# EAGLE library part 653106131822 (library Wurth_Connectors_WR-WTB)
WR-WTB 1.25 mm SMT Male Horizontal Shrouded Header KIND PROPERTIES: Pitch:1.25 mm Gender:Male MATERIAL PROPERTIES: Insulator Material :PA46 Insulator Flammability Rating:UL94 V-0 Color:Ivory Contact Material:Copper Alloy Contact Plating:Tin Contact Type:Stamped GENERAL INFORMATION Operating Temperature:-40 up to +85 °C Compliance: RoHS Working Voltage:125V (AC) Withstanding Voltage:250 V (AC) Contact Resistance:20 mΩ RISO:100 MΩ CERTIFICATION UL Approval:E323964 PACKAGING PROPERTIES Packaging:Tape and Reel <https://katalog.we-online.com/media/images/v2/o33373v209%20Family_WR-WTB_6531xx131822.jpg> Details see: https://katalog.we-online.com/en/em/WTB_1_25_SMT_MALE_HORIZONTAL_SHROUDED_HEADER_6531XX131822 Updated by Yingchun,Shan 2019-11-11 2019 (C) Würth Elektronik
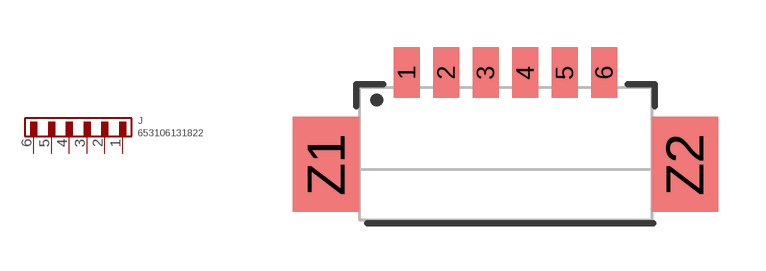
[diagram p109: symbol with the pads of 653106131822; footprint 653106131822]

Designator prefix J

## 653106131822 (CONTACT-RESISTANCE: 20mOhm; DATASHEET-URL: https://www.we-online.com/redexpert/spec/653106131822?ae; GENDER: Male; IR: 1A; L: 12.25mm; MOUNT: SMT; PACKAGING: Tape and Reel; PART-NUMBER: 653106131822; PCB-CABLE-PANEL: PCB; PINS: 6; PITCH: 1.25mm; TYPE: Horizontal; VALUE: 653106131822; WORKING-VOLTAGE: 125V(AC))  [653106131822]
1  1  pas
2  2  pas
3  3  pas
4  4  pas
5  5  pas
6  6  pas

## Footprint 653106131822 (pad centres in mm)
WR-WTB 1.25 mm SMT Male Horizontal Shrouded Header, 6 Pins
smd 0.81 x 1.6: 1 -3.125,2.56; 2 -1.875,2.56; 3 -0.625,2.56; 4 0.625,2.56; 5 1.875,2.56; 6 3.125,2.56
smd 2.1 x 3: Z1 -5.675,-0.34; Z2 5.675,-0.34